# EAGLE library part PCM2902C (library PowerTechLIB2)
PCM2902C
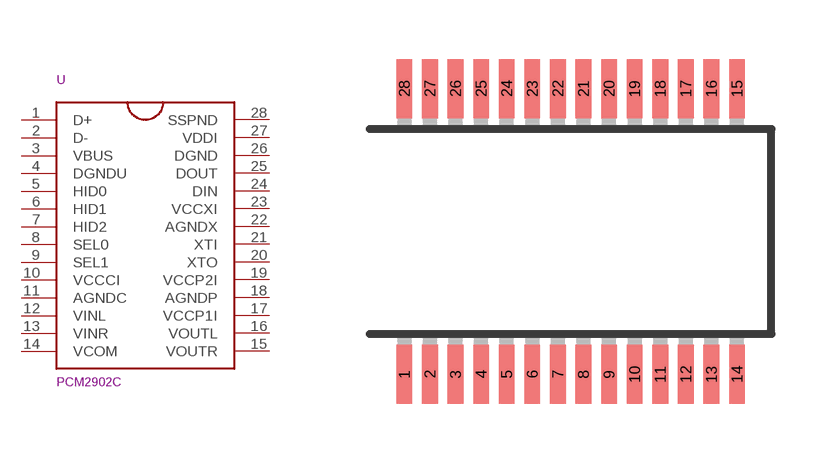
[diagram p14: symbol with the pads of SSOP28; footprint SSOP28]

Designator prefix -

## PCM2902C  [SSOP28]
1  D+
2  D-
3  VBUS
4  DGNDU
5  HID0
6  HID1
7  HID2
8  SEL0
9  SEL1
10  VCCCI
11  AGNDC
12  VINL
13  VINR
14  VCOM
15  VOUTR
16  VOUTL
17  VCCP1I
18  AGNDP
19  VCCP2I
20  XTO
21  XTI
22  AGNDX
23  VCCXI
24  DIN
25  DOUT
26  DGND
27  VDDI
28  SSPND

## Footprint SSOP28 (pad centres in mm)
Shrink Small Outline Package package type SS
smd 0.4 x 1.5: 1 -4.225,-3.625; 2 -3.575,-3.625; 3 -2.925,-3.625; 4 -2.275,-3.625; 5 -1.625,-3.625; 6 -0.975,-3.625; 7 -0.325,-3.625; 8 0.325,-3.625; 9 0.975,-3.625; 10 1.625,-3.625; 11 2.275,-3.625; 12 2.925,-3.625; 13 3.575,-3.625; 14 4.225,-3.625; 15 4.225,3.625; 16 3.575,3.625; 17 2.925,3.625; 18 2.275,3.625; 19 1.625,3.625; 20 0.975,3.625; 21 0.325,3.625; 22 -0.325,3.625; 23 -0.975,3.625; 24 -1.625,3.625; 25 -2.275,3.625; 26 -2.925,3.625; 27 -3.575,3.625; 28 -4.225,3.625